# EAGLE library part MAX1057BETM (library ARVP)
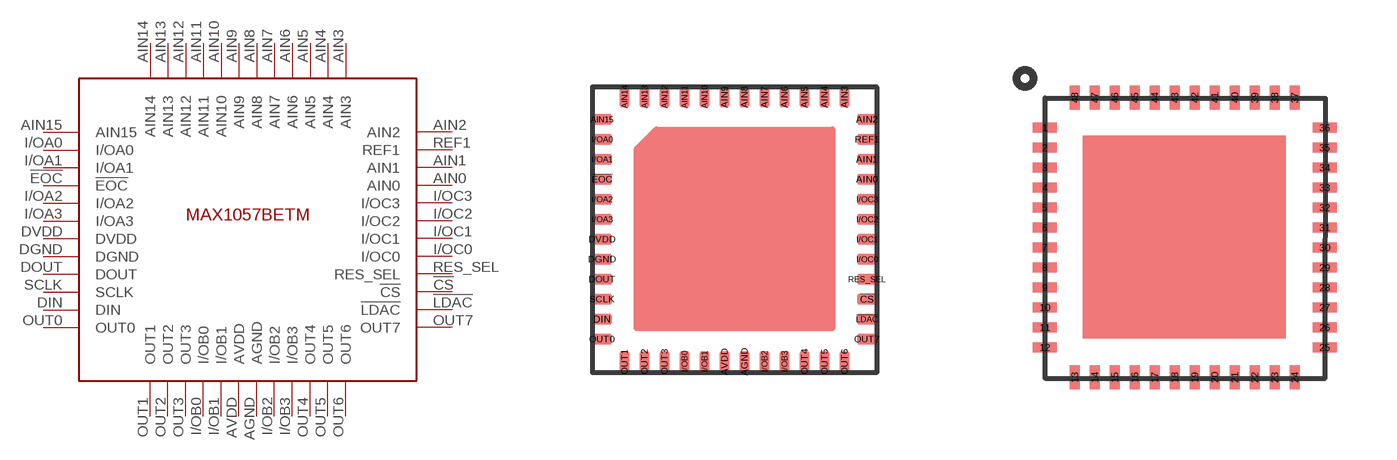
[diagram p6: symbol with the pads of QFN48; footprints QFN48, QFN-48]

Designator prefix -

## MAX1057BETM  [QFN48]
!CS  !CS
!EOC  !EOC
!LDAC  !LDAC
AGND  AGND
AIN0  AIN0
AIN1  AIN1
AIN2  AIN2
AIN3  AIN3
AIN4  AIN4
AIN5  AIN5
AIN6  AIN6
AIN7  AIN7
AIN8  AIN8
AIN9  AIN9
AIN10  AIN10
AIN11  AIN11
AIN12  AIN12
AIN13  AIN13
AIN14  AIN14
AIN15  AIN15
AVDD  AVDD
DGND  DGND
DIN  DIN
DOUT  DOUT
DVDD  DVDD
I/OA0  I/OA0
I/OA1  I/OA1
I/OA2  I/OA2
I/OA3  I/OA3
I/OB0  I/OB0
I/OB1  I/OB1
I/OB2  I/OB2
I/OB3  I/OB3
I/OC0  I/OC0
I/OC1  I/OC1
I/OC2  I/OC2
I/OC3  I/OC3
OUT0  OUT0
OUT1  OUT1
OUT2  OUT2
OUT3  OUT3
OUT4  OUT4
OUT5  OUT5
OUT6  OUT6
OUT7  OUT7
REF1  REF1
RES_SEL  RES_SEL
SCLK  SCLK

## MAX1057BETMALTERNATE  [QFN-48]
1  AIN15
2  I/OA0
3  I/OA1
4  !EOC
5  I/OA2
6  I/OA3
7  DVDD
8  DGND
9  DOUT
10  SCLK
11  DIN
12  OUT0
13  OUT1
14  OUT2
15  OUT3
16  I/OB0
17  I/OB1
18  AVDD
19  AGND
20  I/OB2
21  I/OB3
22  OUT4
23  OUT5
24  OUT6
25  OUT7
26  !LDAC
27  !CS
28  RES_SEL
29  I/OC0
30  I/OC1
31  I/OC2
32  I/OC3
33  AIN0
34  AIN1
35  REF1
36  AIN2
37  AIN3
38  AIN4
39  AIN5
40  AIN6
41  AIN7
42  AIN8
43  AIN9
44  AIN10
45  AIN11
46  AIN12
47  AIN13
48  AIN14

## Footprint QFN48 (pad centres in mm)
smd 0.5 x 0.25: !CS 6.062,-5.062; !EOC -0.562,-2.062; !LDAC 6.062,-5.562; AIN0 6.062,-2.062; AIN1 6.062,-1.562; AIN2 6.062,-0.562; AIN15 -0.562,-0.562; DGND -0.562,-4.062; DIN -0.562,-5.562; DOUT -0.562,-4.562; DVDD -0.562,-3.562; I/OA0 -0.562,-1.062; I/OA1 -0.562,-1.562; I/OA2 -0.562,-2.562; I/OA3 -0.562,-3.062; I/OC0 6.062,-4.062; I/OC1 6.062,-3.562; I/OC2 6.062,-3.062; I/OC3 6.062,-2.562; OUT0 -0.562,-6.062; OUT7 6.062,-6.062; REF1 6.062,-1.062; RES_SEL 6.062,-4.562; SCLK -0.562,-5.062
smd 0.25 x 0.5: AGND 3,-6.625; AIN3 5.5,0; AIN4 5,0; AIN5 4.5,0; AIN6 4,0; AIN7 3.5,0; AIN8 3,0; AIN9 2.5,0; AIN10 2,0; AIN11 1.5,0; AIN12 1,0; AIN13 0.5,0; AIN14 0,0; AVDD 2.5,-6.625; I/OB0 1.5,-6.625; I/OB1 2,-6.625; I/OB2 3.5,-6.625; I/OB3 4,-6.625; OUT1 0,-6.625; OUT2 0.5,-6.625; OUT3 1,-6.625; OUT4 4.5,-6.625; OUT5 5,-6.625; OUT6 5.5,-6.625

## Footprint QFN-48 (pad centres in mm)
QFN package with a 6x8 pin configuration.
smd 0.6 x 0.25: 1 0.072,6.29; 2 0.072,5.79; 3 0.072,5.29; 4 0.072,4.79; 5 0.072,4.29; 6 0.072,3.79; 7 0.072,3.29; 8 0.072,2.79; 9 0.072,2.29; 10 0.072,1.79; 11 0.072,1.29; 12 0.072,0.79; 25 7.072,0.79; 26 7.072,1.29; 27 7.072,1.79; 28 7.072,2.29; 29 7.072,2.79; 30 7.072,3.29; 31 7.072,3.79; 32 7.072,4.29; 33 7.072,4.79; 34 7.072,5.29; 35 7.072,5.79; 36 7.072,6.29
smd 0.25 x 0.6: 13 0.822,0.04; 14 1.322,0.04; 15 1.822,0.04; 16 2.322,0.04; 17 2.822,0.04; 18 3.322,0.04; 19 3.822,0.04; 20 4.322,0.04; 21 4.822,0.04; 22 5.322,0.04; 23 5.822,0.04; 24 6.322,0.04; 37 6.322,7.04; 38 5.822,7.04; 39 5.322,7.04; 40 4.822,7.04; 41 4.322,7.04; 42 3.822,7.04; 43 3.322,7.04; 44 2.822,7.04; 45 2.322,7.04; 46 1.822,7.04; 47 1.322,7.04; 48 0.822,7.04